# Altium footprint library SZSMF5P0AT1G.PcbLib: 3 footprints
Each footprint in its own frame and in the unit in brackets; x right, y up, seen from the top. Pads: shape width x height; smd on the part's side, far side on the other; paste and mask are expansions set on the pad; w line width, h text height; cw(c..) or ccw(c..) is an arc to the next point about the centre after c.
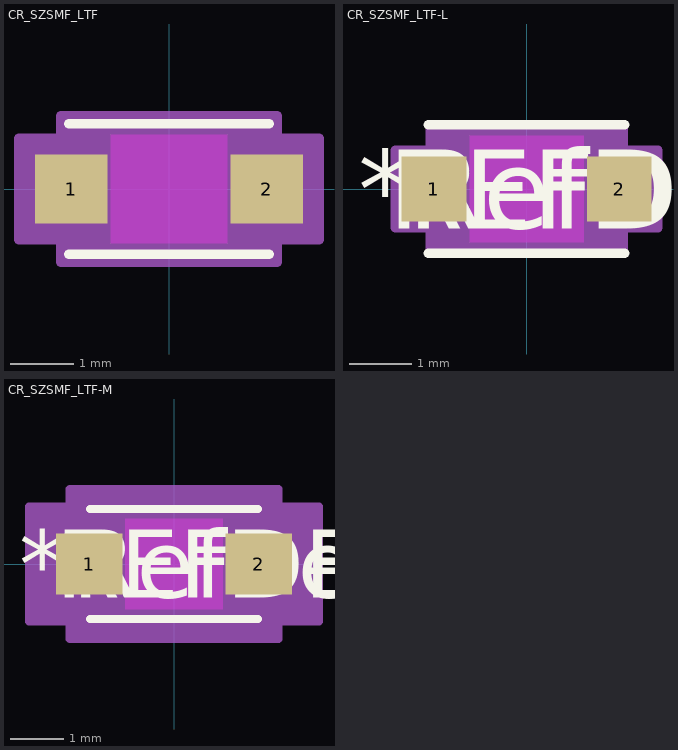
[diagram p0: the footprints below, top view; thin cyan lines are the x and y axes]

## CR_SZSMF_LTF [mil]
pads (2):
  rect 45x43 smd paste+0 mask+0: 1(-60.5,0) 2(60.5,0)
Top Layer keep-out:
  region: -36,-33.5 -36,33.5 36,33.5 36,-33.5
Top Overlay:
  lines w6: -62,-40.5 62,-40.5 ; -62,40.5 62,40.5
Keep-Out Layer:
  region: -36,-33.5 -36,33.5 36,33.5 36,-33.5
Mechanical 13:
  lines w1: -57,-17.75 -39.25,-35.5 ; -57,17.75 -39.25,35.5 ; -75,-21.5 -57,-21.5 -57,21.5 -75,21.5 -75,-21.5 ; -57,-35.5 -57,35.5 57,35.5 57,-35.5 -57,-35.5 ; 57,-21.5 75,-21.5 75,21.5 57,21.5 57,-21.5
  text "*" at -59.5,-25 h50
Mechanical 15:
  region: -67,-31.5 -93,-31.5 -93,31.5 -67,31.5 -67,45.5 67,45.5 67,31.5 93,31.5 93,-31.5 67,-31.5 67,-45.5 -67,-45.5
  lines w6: -93,-31.5 -67,-31.5 -67,-45.5 67,-45.5 67,-31.5 93,-31.5 93,31.5 67,31.5 67,45.5 -67,45.5 -67,31.5 -93,31.5 -93,-31.5
3D body "CR_SZSMF_LTF.step": height 29.25, standoff 0, extent -75,-35.51 75,35.51

## CR_SZSMF_LTF-L [mil]
pads (2):
  rect 41x41 smd paste+0 mask+0: 1(-58.5,0) 2(58.5,0)
Top Layer keep-out:
  region: -36,-33.5 -36,33.5 36,33.5 36,-33.5
Top Overlay:
  lines w6: -62,-40.5 62,-40.5 ; -62,40.5 62,40.5
  text "REFDES" at -87.5,-25 h50
  text "*" at -106.5,-25 h50
  text "RefDes" at -75,-25 h50
Keep-Out Layer:
  region: -36,-33.5 -36,33.5 36,33.5 36,-33.5
Mechanical 13:
  lines w1: -57,-17.75 -39.25,-35.5 ; -57,17.75 -39.25,35.5 ; -75,-21.5 -75,21.5 -57,21.5 -57,-21.5 -75,-21.5 ; -57,-35.5 57,-35.5 57,35.5 -57,35.5 -57,-35.5 ; 57,-21.5 57,21.5 75,21.5 75,-21.5 57,-21.5
  text "*" at -59.5,-25 h50
  text "RefDes2" at -87.5,-25 h50
Mechanical 15:
  region: -61,-24.5 -83,-24.5 -83,24.5 -61,24.5 -61,39.5 61,39.5 61,24.5 83,24.5 83,-24.5 61,-24.5 61,-39.5 -61,-39.5
  lines w6: -83,-24.5 -83,24.5 -61,24.5 -61,39.5 61,39.5 61,24.5 83,24.5 83,-24.5 61,-24.5 61,-39.5 -61,-39.5 -61,-24.5 -83,-24.5
3D body "CR_SZSMF_LTF.step": height 29.25, standoff 0, extent -75,-35.51 75,35.51

## CR_SZSMF_LTF-M [mil]
pads (2):
  rect 49x45 smd paste+0 mask+0: 1(-62.5,0) 2(62.5,0)
Top Layer keep-out:
  region: -36,-33.5 -36,33.5 36,33.5 36,-33.5
Top Overlay:
  lines w6: -62,-40.5 62,-40.5 ; -62,40.5 62,40.5
  text "REFDES" at -87.5,-25 h50
  text "*" at -114.5,-25 h50
  text "RefDes" at -75,-25 h50
Keep-Out Layer:
  region: -36,-33.5 -36,33.5 36,33.5 36,-33.5
Mechanical 13:
  lines w1: -57,-17.75 -39.25,-35.5 ; -57,17.75 -39.25,35.5 ; -75,-21.5 -75,21.5 -57,21.5 -57,-21.5 -75,-21.5 ; -57,-35.5 57,-35.5 57,35.5 -57,35.5 -57,-35.5 ; 57,-21.5 57,21.5 75,21.5 75,-21.5 57,-21.5
  text "*" at -59.5,-25 h50
  text "RefDes2" at -87.5,-25 h50
Mechanical 15:
  region: -77,-42.5 -107,-42.5 -107,42.5 -77,42.5 -77,55.5 77,55.5 77,42.5 107,42.5 107,-42.5 77,-42.5 77,-55.5 -77,-55.5
  lines w6: -107,-42.5 -107,42.5 -77,42.5 -77,55.5 77,55.5 77,42.5 107,42.5 107,-42.5 77,-42.5 77,-55.5 -77,-55.5 -77,-42.5 -107,-42.5
3D body "CR_SZSMF_LTF.step": height 29.25, standoff 0, extent -75,-35.51 75,35.51